# EAGLE library part 74*147 (library 74ttl-din)
10-line to 4-line and 8-line to 3-line PRIORITY DECODER
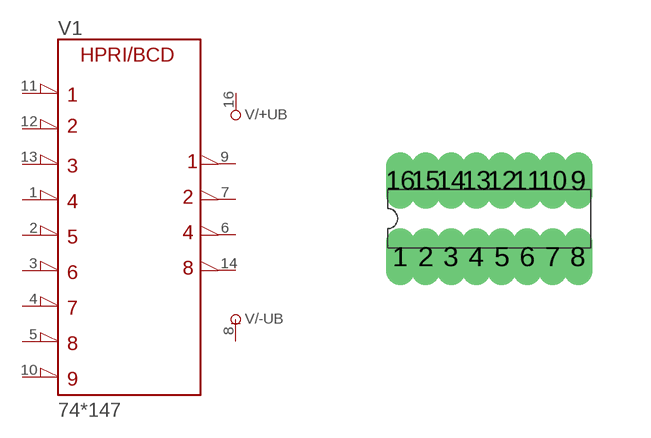
[diagram p40: symbol with the pads of DIL16; footprint DIL16]

Designator prefix V; gates /+UB=+UB /-UB=-UB 1=147

## 74147N  [DIL16]
1  1:4  in
2  1:5  in
3  1:6  in
4  1:7  in
5  1:8  in
6  1:C  out
7  1:B  out
8  /-UB:-UB  pwr
9  1:A  out
10  1:9  in
11  1:1  in
12  1:2  in
13  1:3  in
14  1:D  out
16  /+UB:+UB  pwr

## Footprint DIL16 (pad centres in mm)
Dual In Line Package
drill 0.203 long: 1 -2.223,-0.953; 2 -1.587,-0.953; 3 -0.953,-0.953; 4 -0.318,-0.953; 5 0.318,-0.953; 6 0.953,-0.953; 7 1.587,-0.953; 8 2.223,-0.953; 9 2.223,0.953; 10 1.587,0.953; 11 0.953,0.953; 12 0.318,0.953; 13 -0.318,0.953; 14 -0.953,0.953; 15 -1.587,0.953; 16 -2.223,0.953